# EAGLE library part FFC2B28-06-G (library SamacSys_Parts)
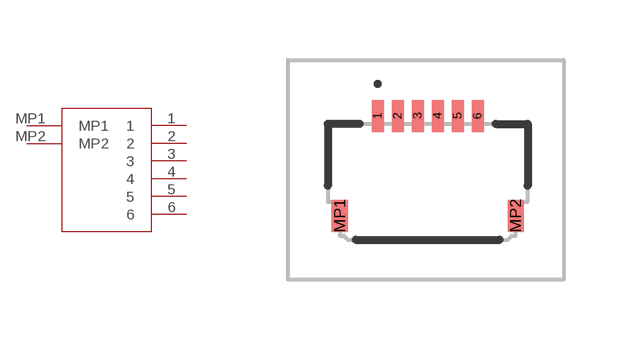
[diagram p18: symbol with the pads of FFC2B2806G; footprint FFC2B2806G]

Designator prefix J

## FFC2B28-06-G  [FFC2B2806G]
1  1
2  2
3  3
4  4
5  5
6  6
MP1  MP1
MP2  MP2

## Footprint FFC2B2806G (pad centres in mm)
smd 0.3 x 0.8: 1 -1.25,1.35; 2 -0.75,1.35; 3 -0.25,1.35; 4 0.25,1.35; 5 0.75,1.35; 6 1.25,1.35
smd 0.4 x 0.8: MP1 -2.2,-1.15; MP2 2.2,-1.15